# Altium schematic symbol library 54-00133.SchLib: 1 symbol
Pins are listed as number, name and electrical type; pins without a type are passive.

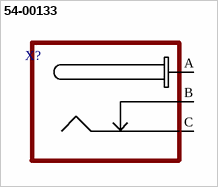
[diagram p0: symbol 54-00133]

## 54-00133
designator X?
pins: A 1, B 2, C 3